# Altium integrated library AMCC PowerPC 405.IntLib: 46 symbols (part 5 of 12)
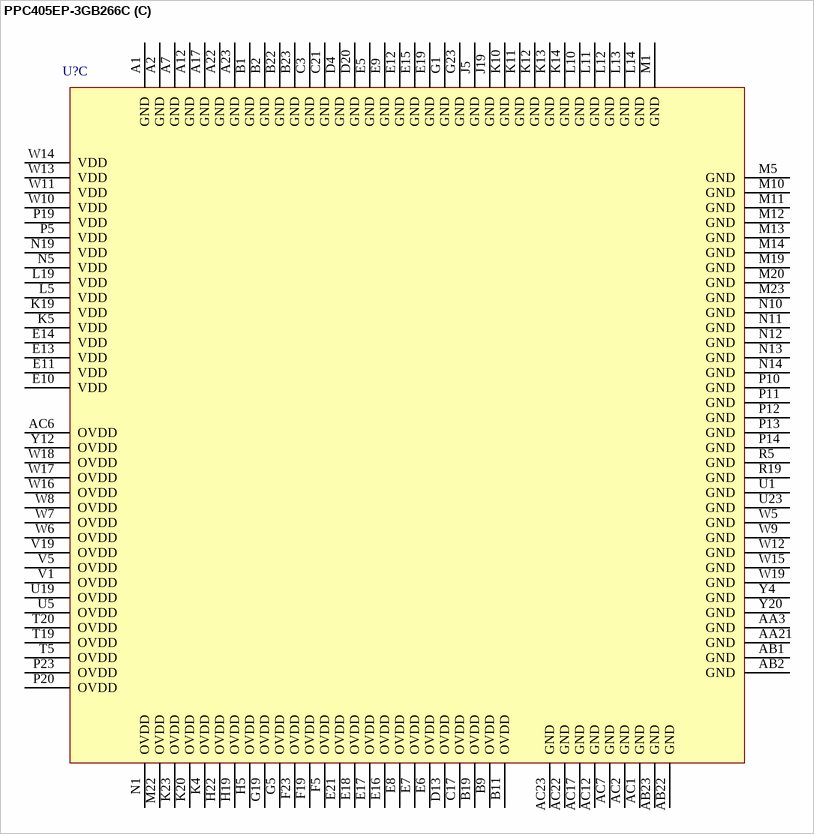
[diagram p122: symbol PPC405EP-3GB266C]

## PPC405EP-3GB266C
designator U?
PowerPC 405EP Embedded Processor, 266MHz, 31mm, 385 Ball E-PBGA; Published: 6-Oct-2005; LatestRevisionDate: 13-Apr-2006; LatestRevisionNote: IPC-7351 Footprint Added.; DatasheetVersion: rev1.02, Jan-2005; PackageVersion: Jan-2005; PackageReference: E-PBGA385; Publisher: Altium Limited; PackageDescription: 385-Ball Enhanced Plastic Ball Grid Array; ComponentLink1Description: Manufacturer Link; ComponentLink1URL: http://www.amcc.com/; ComponentLink2Description: Datasheet; ComponentLink2URL: https://www.amcc.com/MyAMCC/retrieveDocument/PowerPC/405EP/PPC405EP_DS2003__v1_02.pdf
footprint E-PBGA385 (BGA, 385-Leads, Body 31x31mm, Pitch 1.27mm)
3D model PPC405EP-E-PBGA385 (385-Ball Enhanced Plastic Ball Grid Array)
part A pins: A4 GPIO15[PerAddr04] (io), A5 GPIO16[PerAddr05] (io), A9 GPIO00[~{PerBLas}t] (io), A18 PCIC0/~{BE}0 (io), A19 PCIAD07 (io), A20 PCIAD10 (io), A21 PCIIDSel (in), AA1 TDI (in), AA2 TDO (out), AA7 DQM1 (out), AA15 ~{RA}S (out), AA23 GPIO01[TS1E] (io), AB4 IICSCL (io), AB13 ~{BankSel}0 (out), AB14 ClkEn0 (out), AB18 SysClk (in), AB20 ~{SysRese}t (io), AB21 AGND (in), AC3 TMS (in), AC10 DQM0 (out), AC13 ~{BankSel}1 (out), AC14 ClkEn1 (out), AC15 ~{WE} (out), AC16 BA1 (out), AC20 AVDD (in), B4 GPIO14[PerAddr03] (io), B16 PCIAD00 (io), B17 PCIAD02 (io), B18 PCIAD04 (io), B20 PCIAD11 (io), B21 PCIClk (in), C2 GPIO10[~{PerCS}1] (io), C16 PCIAD01 (io), C18 PCIAD06 (io), C19 PCIAD09 (io), C20 PCIAD12 (io), C22 ~{Hal}t (in), C23 PCIAD13 (io), D3 GPIO12[~{PerCS}3] (io), D5 GPIO13[~{PerCS}4] (io), D15 ~{PCIINT}[~{PerW}E] (out), D16 PCIAD03 (io), D17 PCIAD05 (io), D18 PCIAD08 (io), D19 PCIC1/~{BE}1 (io), D21 PCIAD14 (io), D22 PCIAD15 (io), D23 ~{PCIGnt}0/~{Re}q (out), E3 GPIO11[~{PerCS}2] (io), E20 ~{PCIReq0}/~{Gn}t (in), E22 ~{PCIReq}2 (in), E23 ~{PCIGnt}1 (out), F20 ~{PCIReq}1 (in), F21 ~{PCIGnt}2 (out), F22 ~{PCIFram}e (io), G20 ~{PCIRese}t (out), G21 ~{PCITRD}Y (io), G22 ~{PCISto}p (io), H2 ~{TRS}T (in), H20 ~{PCIIRD}Y (io), H21 ~{PCIDevSe}l (io), H23 ~{PCIPEr}r (io), J1 GPIO27[~{UART0_DT}R] (io), J2 GPIO28[UART1_Rx] (io), J3 GPIO29[UART1_Tx] (io), J20 ~{PCISEr}r (io), J21 PCIParity (io), J22 PCIAD16 (io), J23 PCIAD17 (io), K1 GPIO25[~{UART0_DS}R] (io), K21 PCIAD18 (io), K22 PCIAD19 (io), L4 GPIO26[~{UART0_R}I] (io), L20 PCIC2/~{BE}2 (io), L21 PCIAD20 (io), L22 PCIAD21 (io), L23 PCIAD22 (io), M4 GPIO24[~{UART0_DC}D] (io), M21 PCIAD23 (io), N2 ~{UART0_RT}S (out), N20 PCIC3/~{BE}3 (io), N21 PCIAD26 (io), N22 PCIAD25 (io), N23 PCIAD24 (io), P4 UART0_Tx (out), P21 PCIAD28 (io), P22 PCIAD27 (io), R20 GPIO22[IRQ5] (io), R21 PCIAD31 (io), R22 PCIAD30 (io), R23 PCIAD29 (io), T1 UART0_Rx (in), T3 ~{UART0_CT}S (in), T21 GPIO09[TrcClk] (io), T22 GPIO21[IRQ4] (io), T23 GPIO23[IRQ6] (io), U2 DQM3 (out), U20 GPIO05[TS3] (io), U21 GPIO07[TS5] (io), U22 GPIO08[TS6] (io), V20 ~{TestE}n (in), V21 GPIO19[IRQ2] (io), V22 GPIO20[IRQ3] (io), V23 GPIO06[TS4] (io), W4 DQM2 (out), W20 GPIO30[RejectPkt0] (io), W21 GPIO04[TS2O] (io), W22 GPIO17[IRQ0] (io), W23 GPIO18[IRQ1] (io), Y1 IICSDA (io), Y2 TCK (in), Y14 ~{CA}S (out), Y15 BA0 (out), Y17 SysErr (out), Y21 GPIO31[RejectPkt1] (io), Y22 GPIO02[TS2E] (io), Y23 GPIO03[TS1O] (io)
part B pins: A3 ~{ExtRese}t (out), A6 PerAddr08 (io), A8 PerAddr15 (io), A10 PerAddr21 (io), A11 PerAddr23 (io), A13 PerAddr27 (io), A14 PerAddr30 (io), A15 EMC0Tx1D2 (out), A16 EMC0Tx1En (out), AA4 MemData19 (io), AA5 EMCMDIO (io), AA6 MemData14 (io), AA8 MemData10 (io), AA9 PHY0CrS0 (in), AA10 MemData05 (io), AA11 MemData03 (io), AA12 MemData01 (io), AA13 PHY0Rx0D3 (in), AA14 MemClkOut0 (out), AA16 PHY0Rx0D2 (in), AA17 MemAddr03 (out), AA18 MemAddr05 (out), AA19 MemAddr09 (out), AA20 MemAddr11 (out), AA22 PHY0Rx0D1 (in), AB3 MemData20 (io), AB5 MemData16 (io), AB6 MemData12 (io), AB7 MemData11 (io), AB8 PHY0Col0 (in), AB9 MemData07 (io), AB10 PHY0Rx0Clk (in), AB11 PHY0Rx0Err (in), AB12 MemData00 (io), AB15 MemAddr00 (out), AB16 MemAddr01 (out), AB17 MemAddr02 (out), AB19 MemAddr07 (out), AC4 MemData17 (io), AC5 MemData15 (io), AC8 MemData08 (io), AC9 MemData06 (io), AC11 MemData02 (io), AC18 MemAddr04 (out), AC19 MemAddr06 (out), AC21 MemAddr12 (out), B3 PerReady (in), B5 PHY0CrS1 (in), B6 PerAddr07 (io), B7 PerAddr11 (io), B8 PerAddr13 (io), B10 PerAddr19 (io), B12 PerAddr25 (io), B13 PerAddr28 (io), B14 PerAddr31 (io), B15 EMC0Tx1D0 (out), C1 PHY0Rx1Err (in), C4 PerClk (out), C5 PHY0Col1 (in), C6 PHY0Tx1Clk (in), C7 PerAddr10 (io), C8 PerAddr12 (io), C9 PerAddr16 (io), C10 PerAddr18 (io), C11 PerAddr22 (io), C12 PerAddr26 (io), C13 PerAddr29 (io), C14 EMC0Tx1D1 (out), C15 EMC0Tx1Err (out), D1 PerData15 (io), D2 PerR/~{W} (out), D6 PHY0Rx1DV (in), D7 PerAddr06 (io), D8 PerAddr09 (io), D9 PerAddr14 (io), D10 PerAddr17 (io), D11 PerAddr20 (io), D12 PerAddr24 (io), D14 EMC0Tx1D3 (out), E1 ~{PerWBE}1 (out), E2 PHY0Rx1Clk (in), E4 ~{PerCS}0 (out), F1 PerData14 (io), F2 PHY0Rx1D3 (in), F3 ~{PerWBE}0 (out), F4 ~{PerO}E (out), G2 PerData11 (io), G3 PHY0Rx1D2 (in), G4 PerData12 (io), H1 PerData09 (io), H3 PHY0Rx1D1 (in), H4 PerData13 (io), J4 PerData10 (io), K2 PerData07 (io), K3 PerData08 (io), L1 EMC0Tx0D2 (out), L2 PerData05 (io), L3 PerData06 (io), M2 PerData03 (io), M3 PerData04 (io), N3 EMC0Tx0D1 (out), N4 PerData01 (io), P1 PerData02 (io), P2 PerData00 (io), P3 EMC0Tx0D3 (out), R1 PHY0Rx1D0 (in), R2 MemData31 (io), R3 MemData30 (io), R4 MemData29 (io), T2 MemData28 (io), T4 MemData27 (io), U3 EMC0Tx0D0 (out), U4 MemData25 (io), V2 MemData26 (io), V3 EMC0Tx0Err (out), V4 MemData23 (io), W1 EMC0Tx0En (out), W2 MemData24 (io), W3 MemData22 (io), Y3 MemData21 (io), Y5 MemData18 (io), Y6 EMCMDClk (out), Y7 MemData13 (io), Y8 PHY0Tx0Clk (in), Y9 MemData09 (io), Y10 PHY0Rx0DV (in), Y11 MemData04 (io), Y13 MemClkOut1 (out), Y16 PHY0Rx0D0 (in), Y18 MemAddr08 (out), Y19 MemAddr10 (out)
part C pins: A1 GND (power), A2 GND (power), A7 GND (power), A12 GND (power), A17 GND (power), A22 GND (power), A23 GND (power), AA3 GND (power), AA21 GND (power), AB1 GND (power), AB2 GND (power), AB22 GND (power), AB23 GND (power), AC1 GND (power), AC2 GND (power), AC6 OVDD (power), AC7 GND (power), AC12 GND (power), AC17 GND (power), AC22 GND (power), AC23 GND (power), B1 GND (power), B2 GND (power), B9 OVDD (power), B11 OVDD (power), B19 OVDD (power), B22 GND (power), B23 GND (power), C3 GND (power), C17 OVDD (power), C21 GND (power), D4 GND (power), D13 OVDD (power), D20 GND (power), E5 GND (power), E6 OVDD (power), E7 OVDD (power), E8 OVDD (power), E9 GND (power), E10 VDD (power), E11 VDD (power), E12 GND (power), E13 VDD (power), E14 VDD (power), E15 GND (power), E16 OVDD (power), E17 OVDD (power), E18 OVDD (power), E19 GND (power), E21 OVDD (power), F5 OVDD (power), F19 OVDD (power), F23 OVDD (power), G1 GND (power), G5 OVDD (power), G19 OVDD (power), G23 GND (power), H5 OVDD (power), H19 OVDD (power), H22 OVDD (power), J5 GND (power), J19 GND (power), K4 OVDD (power), K5 VDD (power), K10 GND (power) "Thermal Balls", K11 GND (power) "Thermal Balls", K12 GND (power) "Thermal Balls", K13 GND (power) "Thermal Balls", K14 GND (power) "Thermal Balls", K19 VDD (power), K20 OVDD (power), K23 OVDD (power), L5 VDD (power), L10 GND (power) "Thermal Balls", L11 GND (power) "Thermal Balls", L12 GND (power) "Thermal Balls", L13 GND (power) "Thermal Balls", L14 GND (power) "Thermal Balls", L19 VDD (power), M1 GND (power), M5 GND (power), M10 GND (power) "Thermal Balls", M11 GND (power) "Thermal Balls", M12 GND (power) "Thermal Balls", M13 GND (power) "Thermal Balls", M14 GND (power) "Thermal Balls", M19 GND (power), M20 GND (power), M22 OVDD (power), M23 GND (power), N1 OVDD (power), N5 VDD (power), N10 GND (power) "Thermal Balls", N11 GND (power) "Thermal Balls", N12 GND (power) "Thermal Balls", N13 GND (power) "Thermal Balls", N14 GND (power) "Thermal Balls", N19 VDD (power), P5 VDD (power), P10 GND (power) "Thermal Balls", P11 GND (power) "Thermal Balls", P12 GND (power) "Thermal Balls", P13 GND (power) "Thermal Balls", P14 GND (power) "Thermal Balls", P19 VDD (power), P20 OVDD (power), P23 OVDD (power), R5 GND (power), R19 GND (power), T5 OVDD (power), T19 OVDD (power), T20 OVDD (power), U1 GND (power), U5 OVDD (power), U19 OVDD (power), U23 GND (power), V1 OVDD (power), V5 OVDD (power), V19 OVDD (power), W5 GND (power), W6 OVDD (power), W7 OVDD (power), W8 OVDD (power), W9 GND (power), W10 VDD (power), W11 VDD (power), W12 GND (power), W13 VDD (power), W14 VDD (power), W15 GND (power), W16 OVDD (power), W17 OVDD (power), W18 OVDD (power), W19 GND (power), Y4 GND (power), Y12 OVDD (power), Y20 GND (power)

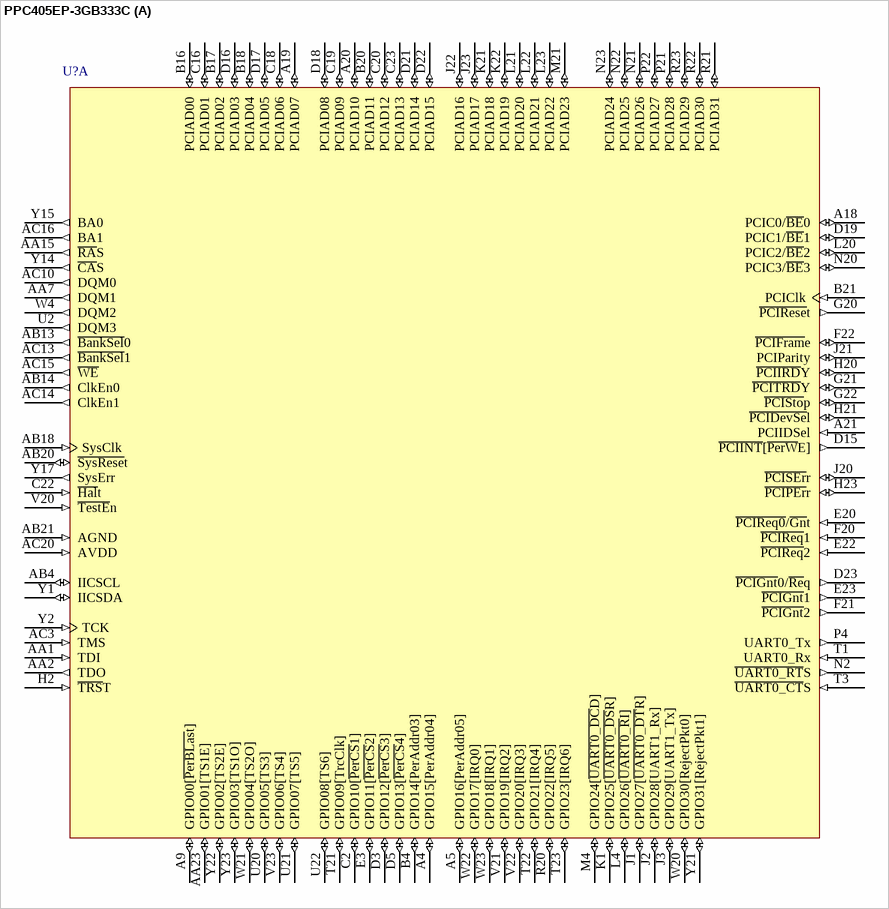
[diagram p26: symbol PPC405EP-3GB333C]

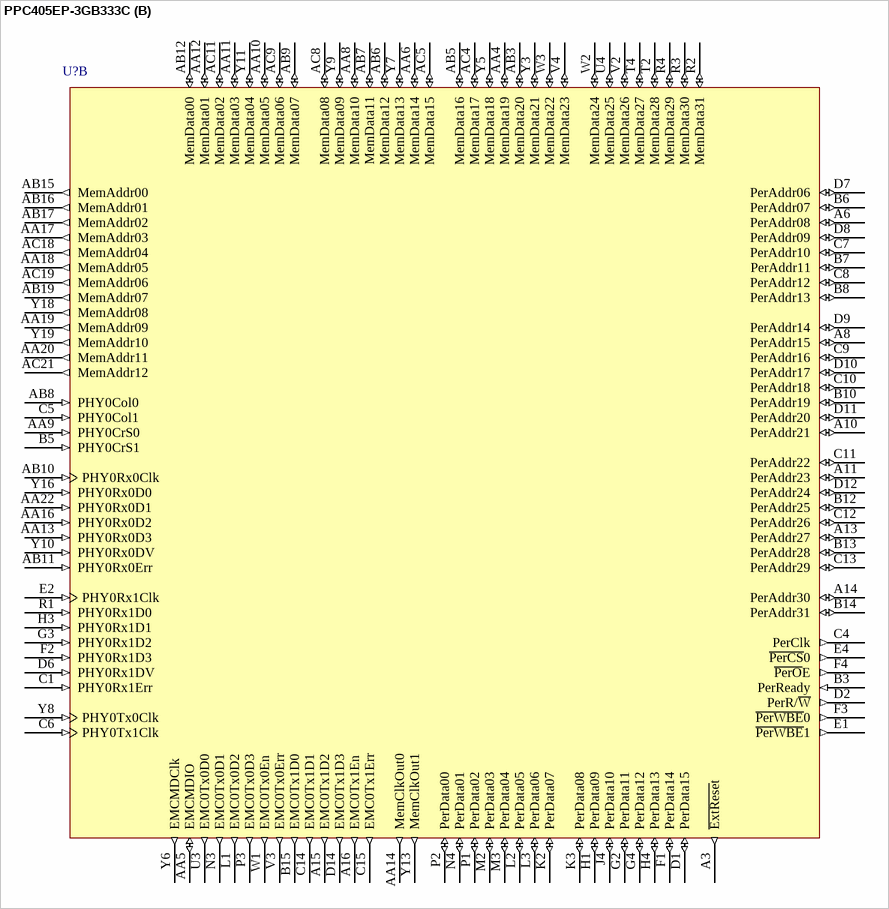
[diagram p27: symbol PPC405EP-3GB333C]

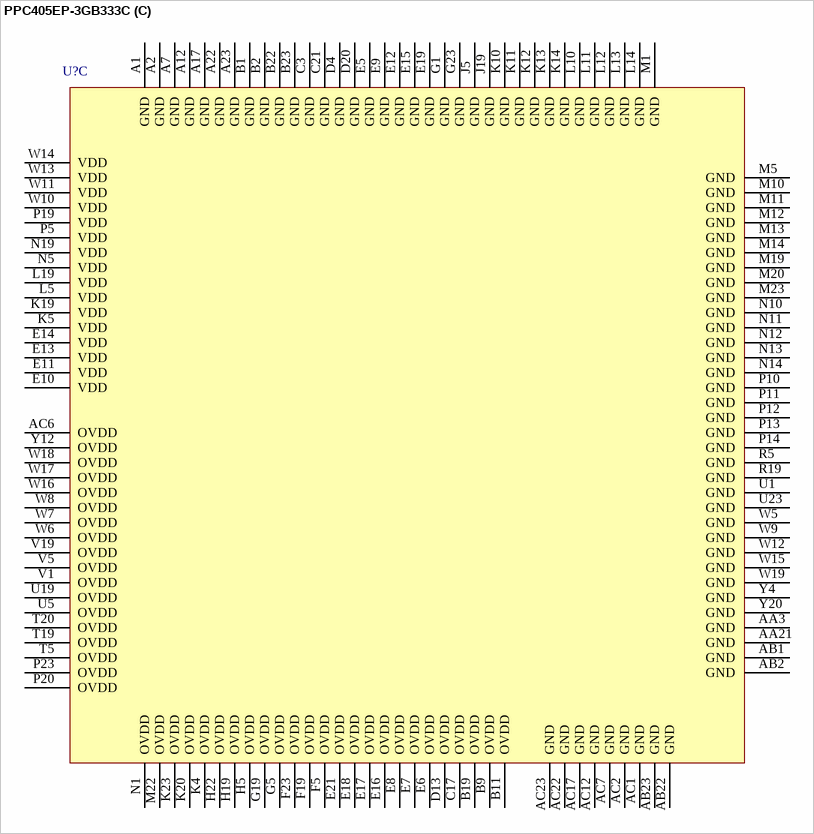
[diagram p28: symbol PPC405EP-3GB333C]

## PPC405EP-3GB333C
designator U?
PowerPC 405EP Embedded Processor, 333MHz, 31mm, 385 Ball E-PBGA; Published: 6-Oct-2005; LatestRevisionDate: 13-Apr-2006; LatestRevisionNote: IPC-7351 Footprint Added.; DatasheetVersion: rev1.02, Jan-2005; PackageVersion: Jan-2005; PackageReference: E-PBGA385; Publisher: Altium Limited; PackageDescription: 385-Ball Enhanced Plastic Ball Grid Array; ComponentLink1Description: Manufacturer Link; ComponentLink1URL: http://www.amcc.com/; ComponentLink2Description: Datasheet; ComponentLink2URL: https://www.amcc.com/MyAMCC/retrieveDocument/PowerPC/405EP/PPC405EP_DS2003__v1_02.pdf
footprint E-PBGA385 (BGA, 385-Leads, Body 31x31mm, Pitch 1.27mm)
3D model PPC405EP-E-PBGA385 (385-Ball Enhanced Plastic Ball Grid Array)
part A pins: A4 GPIO15[PerAddr04] (io), A5 GPIO16[PerAddr05] (io), A9 GPIO00[~{PerBLas}t] (io), A18 PCIC0/~{BE}0 (io), A19 PCIAD07 (io), A20 PCIAD10 (io), A21 PCIIDSel (in), AA1 TDI (in), AA2 TDO (out), AA7 DQM1 (out), AA15 ~{RA}S (out), AA23 GPIO01[TS1E] (io), AB4 IICSCL (io), AB13 ~{BankSel}0 (out), AB14 ClkEn0 (out), AB18 SysClk (in), AB20 ~{SysRese}t (io), AB21 AGND (in), AC3 TMS (in), AC10 DQM0 (out), AC13 ~{BankSel}1 (out), AC14 ClkEn1 (out), AC15 ~{WE} (out), AC16 BA1 (out), AC20 AVDD (in), B4 GPIO14[PerAddr03] (io), B16 PCIAD00 (io), B17 PCIAD02 (io), B18 PCIAD04 (io), B20 PCIAD11 (io), B21 PCIClk (in), C2 GPIO10[~{PerCS}1] (io), C16 PCIAD01 (io), C18 PCIAD06 (io), C19 PCIAD09 (io), C20 PCIAD12 (io), C22 ~{Hal}t (in), C23 PCIAD13 (io), D3 GPIO12[~{PerCS}3] (io), D5 GPIO13[~{PerCS}4] (io), D15 ~{PCIINT}[~{PerW}E] (out), D16 PCIAD03 (io), D17 PCIAD05 (io), D18 PCIAD08 (io), D19 PCIC1/~{BE}1 (io), D21 PCIAD14 (io), D22 PCIAD15 (io), D23 ~{PCIGnt}0/~{Re}q (out), E3 GPIO11[~{PerCS}2] (io), E20 ~{PCIReq0}/~{Gn}t (in), E22 ~{PCIReq}2 (in), E23 ~{PCIGnt}1 (out), F20 ~{PCIReq}1 (in), F21 ~{PCIGnt}2 (out), F22 ~{PCIFram}e (io), G20 ~{PCIRese}t (out), G21 ~{PCITRD}Y (io), G22 ~{PCISto}p (io), H2 ~{TRS}T (in), H20 ~{PCIIRD}Y (io), H21 ~{PCIDevSe}l (io), H23 ~{PCIPEr}r (io), J1 GPIO27[~{UART0_DT}R] (io), J2 GPIO28[UART1_Rx] (io), J3 GPIO29[UART1_Tx] (io), J20 ~{PCISEr}r (io), J21 PCIParity (io), J22 PCIAD16 (io), J23 PCIAD17 (io), K1 GPIO25[~{UART0_DS}R] (io), K21 PCIAD18 (io), K22 PCIAD19 (io), L4 GPIO26[~{UART0_R}I] (io), L20 PCIC2/~{BE}2 (io), L21 PCIAD20 (io), L22 PCIAD21 (io), L23 PCIAD22 (io), M4 GPIO24[~{UART0_DC}D] (io), M21 PCIAD23 (io), N2 ~{UART0_RT}S (out), N20 PCIC3/~{BE}3 (io), N21 PCIAD26 (io), N22 PCIAD25 (io), N23 PCIAD24 (io), P4 UART0_Tx (out), P21 PCIAD28 (io), P22 PCIAD27 (io), R20 GPIO22[IRQ5] (io), R21 PCIAD31 (io), R22 PCIAD30 (io), R23 PCIAD29 (io), T1 UART0_Rx (in), T3 ~{UART0_CT}S (in), T21 GPIO09[TrcClk] (io), T22 GPIO21[IRQ4] (io), T23 GPIO23[IRQ6] (io), U2 DQM3 (out), U20 GPIO05[TS3] (io), U21 GPIO07[TS5] (io), U22 GPIO08[TS6] (io), V20 ~{TestE}n (in), V21 GPIO19[IRQ2] (io), V22 GPIO20[IRQ3] (io), V23 GPIO06[TS4] (io), W4 DQM2 (out), W20 GPIO30[RejectPkt0] (io), W21 GPIO04[TS2O] (io), W22 GPIO17[IRQ0] (io), W23 GPIO18[IRQ1] (io), Y1 IICSDA (io), Y2 TCK (in), Y14 ~{CA}S (out), Y15 BA0 (out), Y17 SysErr (out), Y21 GPIO31[RejectPkt1] (io), Y22 GPIO02[TS2E] (io), Y23 GPIO03[TS1O] (io)
part B pins: A3 ~{ExtRese}t (out), A6 PerAddr08 (io), A8 PerAddr15 (io), A10 PerAddr21 (io), A11 PerAddr23 (io), A13 PerAddr27 (io), A14 PerAddr30 (io), A15 EMC0Tx1D2 (out), A16 EMC0Tx1En (out), AA4 MemData19 (io), AA5 EMCMDIO (io), AA6 MemData14 (io), AA8 MemData10 (io), AA9 PHY0CrS0 (in), AA10 MemData05 (io), AA11 MemData03 (io), AA12 MemData01 (io), AA13 PHY0Rx0D3 (in), AA14 MemClkOut0 (out), AA16 PHY0Rx0D2 (in), AA17 MemAddr03 (out), AA18 MemAddr05 (out), AA19 MemAddr09 (out), AA20 MemAddr11 (out), AA22 PHY0Rx0D1 (in), AB3 MemData20 (io), AB5 MemData16 (io), AB6 MemData12 (io), AB7 MemData11 (io), AB8 PHY0Col0 (in), AB9 MemData07 (io), AB10 PHY0Rx0Clk (in), AB11 PHY0Rx0Err (in), AB12 MemData00 (io), AB15 MemAddr00 (out), AB16 MemAddr01 (out), AB17 MemAddr02 (out), AB19 MemAddr07 (out), AC4 MemData17 (io), AC5 MemData15 (io), AC8 MemData08 (io), AC9 MemData06 (io), AC11 MemData02 (io), AC18 MemAddr04 (out), AC19 MemAddr06 (out), AC21 MemAddr12 (out), B3 PerReady (in), B5 PHY0CrS1 (in), B6 PerAddr07 (io), B7 PerAddr11 (io), B8 PerAddr13 (io), B10 PerAddr19 (io), B12 PerAddr25 (io), B13 PerAddr28 (io), B14 PerAddr31 (io), B15 EMC0Tx1D0 (out), C1 PHY0Rx1Err (in), C4 PerClk (out), C5 PHY0Col1 (in), C6 PHY0Tx1Clk (in), C7 PerAddr10 (io), C8 PerAddr12 (io), C9 PerAddr16 (io), C10 PerAddr18 (io), C11 PerAddr22 (io), C12 PerAddr26 (io), C13 PerAddr29 (io), C14 EMC0Tx1D1 (out), C15 EMC0Tx1Err (out), D1 PerData15 (io), D2 PerR/~{W} (out), D6 PHY0Rx1DV (in), D7 PerAddr06 (io), D8 PerAddr09 (io), D9 PerAddr14 (io), D10 PerAddr17 (io), D11 PerAddr20 (io), D12 PerAddr24 (io), D14 EMC0Tx1D3 (out), E1 ~{PerWBE}1 (out), E2 PHY0Rx1Clk (in), E4 ~{PerCS}0 (out), F1 PerData14 (io), F2 PHY0Rx1D3 (in), F3 ~{PerWBE}0 (out), F4 ~{PerO}E (out), G2 PerData11 (io), G3 PHY0Rx1D2 (in), G4 PerData12 (io), H1 PerData09 (io), H3 PHY0Rx1D1 (in), H4 PerData13 (io), J4 PerData10 (io), K2 PerData07 (io), K3 PerData08 (io), L1 EMC0Tx0D2 (out), L2 PerData05 (io), L3 PerData06 (io), M2 PerData03 (io), M3 PerData04 (io), N3 EMC0Tx0D1 (out), N4 PerData01 (io), P1 PerData02 (io), P2 PerData00 (io), P3 EMC0Tx0D3 (out), R1 PHY0Rx1D0 (in), R2 MemData31 (io), R3 MemData30 (io), R4 MemData29 (io), T2 MemData28 (io), T4 MemData27 (io), U3 EMC0Tx0D0 (out), U4 MemData25 (io), V2 MemData26 (io), V3 EMC0Tx0Err (out), V4 MemData23 (io), W1 EMC0Tx0En (out), W2 MemData24 (io), W3 MemData22 (io), Y3 MemData21 (io), Y5 MemData18 (io), Y6 EMCMDClk (out), Y7 MemData13 (io), Y8 PHY0Tx0Clk (in), Y9 MemData09 (io), Y10 PHY0Rx0DV (in), Y11 MemData04 (io), Y13 MemClkOut1 (out), Y16 PHY0Rx0D0 (in), Y18 MemAddr08 (out), Y19 MemAddr10 (out)
part C pins: A1 GND (power), A2 GND (power), A7 GND (power), A12 GND (power), A17 GND (power), A22 GND (power), A23 GND (power), AA3 GND (power), AA21 GND (power), AB1 GND (power), AB2 GND (power), AB22 GND (power), AB23 GND (power), AC1 GND (power), AC2 GND (power), AC6 OVDD (power), AC7 GND (power), AC12 GND (power), AC17 GND (power), AC22 GND (power), AC23 GND (power), B1 GND (power), B2 GND (power), B9 OVDD (power), B11 OVDD (power), B19 OVDD (power), B22 GND (power), B23 GND (power), C3 GND (power), C17 OVDD (power), C21 GND (power), D4 GND (power), D13 OVDD (power), D20 GND (power), E5 GND (power), E6 OVDD (power), E7 OVDD (power), E8 OVDD (power), E9 GND (power), E10 VDD (power), E11 VDD (power), E12 GND (power), E13 VDD (power), E14 VDD (power), E15 GND (power), E16 OVDD (power), E17 OVDD (power), E18 OVDD (power), E19 GND (power), E21 OVDD (power), F5 OVDD (power), F19 OVDD (power), F23 OVDD (power), G1 GND (power), G5 OVDD (power), G19 OVDD (power), G23 GND (power), H5 OVDD (power), H19 OVDD (power), H22 OVDD (power), J5 GND (power), J19 GND (power), K4 OVDD (power), K5 VDD (power), K10 GND (power) "Thermal Balls", K11 GND (power) "Thermal Balls", K12 GND (power) "Thermal Balls", K13 GND (power) "Thermal Balls", K14 GND (power) "Thermal Balls", K19 VDD (power), K20 OVDD (power), K23 OVDD (power), L5 VDD (power), L10 GND (power) "Thermal Balls", L11 GND (power) "Thermal Balls", L12 GND (power) "Thermal Balls", L13 GND (power) "Thermal Balls", L14 GND (power) "Thermal Balls", L19 VDD (power), M1 GND (power), M5 GND (power), M10 GND (power) "Thermal Balls", M11 GND (power) "Thermal Balls", M12 GND (power) "Thermal Balls", M13 GND (power) "Thermal Balls", M14 GND (power) "Thermal Balls", M19 GND (power), M20 GND (power), M22 OVDD (power), M23 GND (power), N1 OVDD (power), N5 VDD (power), N10 GND (power) "Thermal Balls", N11 GND (power) "Thermal Balls", N12 GND (power) "Thermal Balls", N13 GND (power) "Thermal Balls", N14 GND (power) "Thermal Balls", N19 VDD (power), P5 VDD (power), P10 GND (power) "Thermal Balls", P11 GND (power) "Thermal Balls", P12 GND (power) "Thermal Balls", P13 GND (power) "Thermal Balls", P14 GND (power) "Thermal Balls", P19 VDD (power), P20 OVDD (power), P23 OVDD (power), R5 GND (power), R19 GND (power), T5 OVDD (power), T19 OVDD (power), T20 OVDD (power), U1 GND (power), U5 OVDD (power), U19 OVDD (power), U23 GND (power), V1 OVDD (power), V5 OVDD (power), V19 OVDD (power), W5 GND (power), W6 OVDD (power), W7 OVDD (power), W8 OVDD (power), W9 GND (power), W10 VDD (power), W11 VDD (power), W12 GND (power), W13 VDD (power), W14 VDD (power), W15 GND (power), W16 OVDD (power), W17 OVDD (power), W18 OVDD (power), W19 GND (power), Y4 GND (power), Y12 OVDD (power), Y20 GND (power)

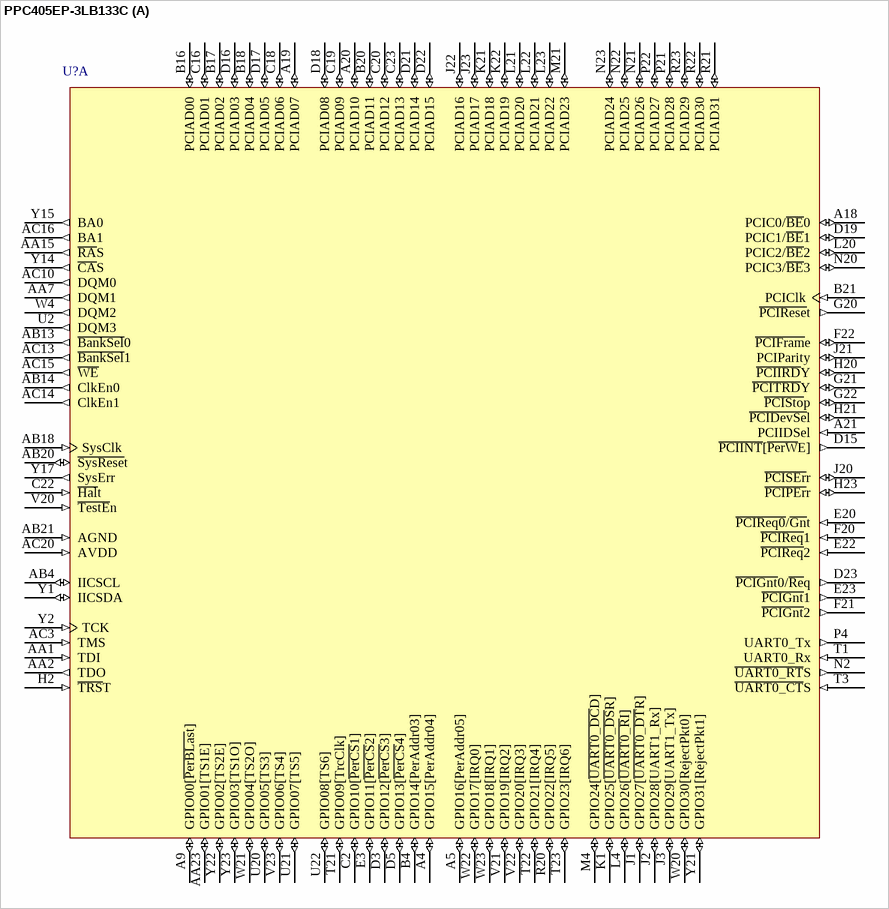
[diagram p29: symbol PPC405EP-3LB133C]

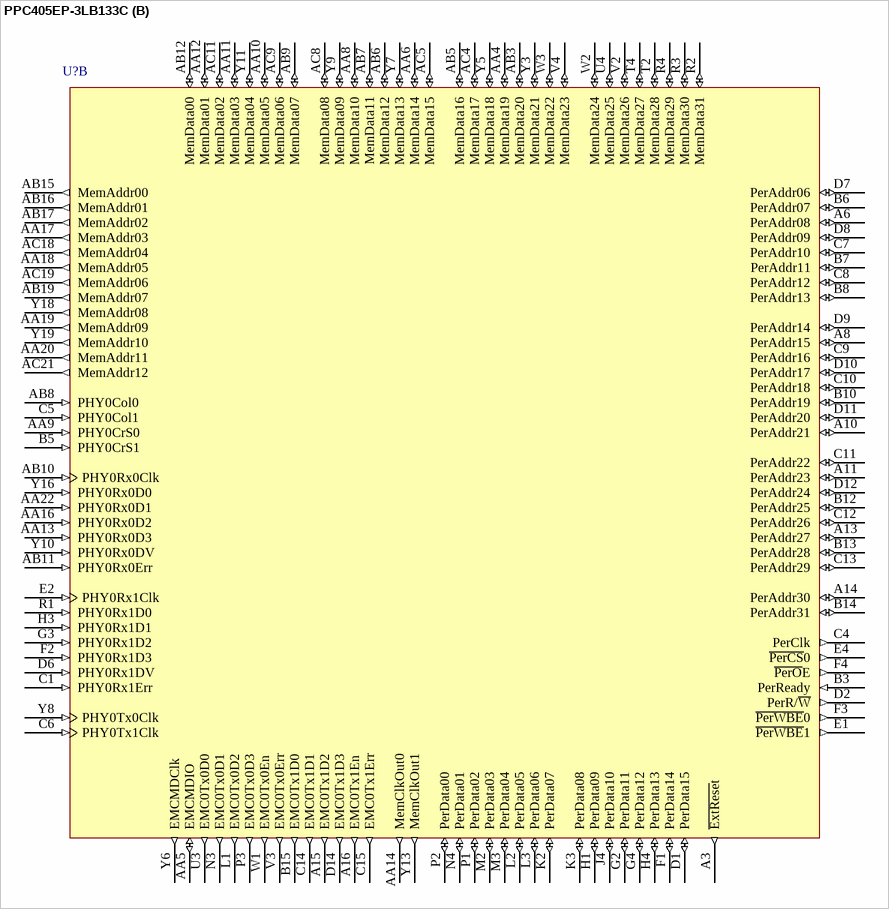
[diagram p30: symbol PPC405EP-3LB133C]

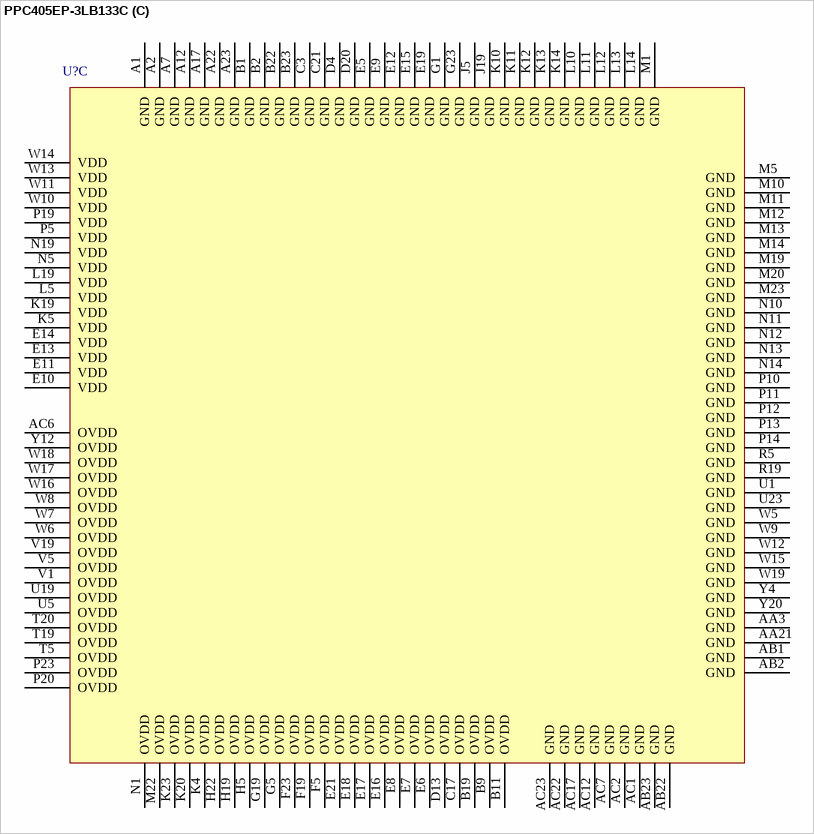
[diagram p31: symbol PPC405EP-3LB133C]

## PPC405EP-3LB133C
designator U?
PowerPC 405EP Embedded Processor, 133MHz, 31mm, 385 Ball E-PBGA, Pb-Free; Published: 6-Oct-2005; LatestRevisionDate: 13-Apr-2006; LatestRevisionNote: IPC-7351 Footprint Added.; DatasheetVersion: rev1.02, Jan-2005; PackageVersion: Jan-2005; PackageReference: E-PBGA385; Publisher: Altium Limited; PackageDescription: 385-Ball Enhanced Plastic Ball Grid Array; ComponentLink1Description: Manufacturer Link; ComponentLink1URL: http://www.amcc.com/; ComponentLink2Description: Datasheet; ComponentLink2URL: https://www.amcc.com/MyAMCC/retrieveDocument/PowerPC/405EP/PPC405EP_DS2003__v1_02.pdf
footprint E-PBGA385 (BGA, 385-Leads, Body 31x31mm, Pitch 1.27mm)
3D model PPC405EP-E-PBGA385 (385-Ball Enhanced Plastic Ball Grid Array)
part A pins: A4 GPIO15[PerAddr04] (io), A5 GPIO16[PerAddr05] (io), A9 GPIO00[~{PerBLas}t] (io), A18 PCIC0/~{BE}0 (io), A19 PCIAD07 (io), A20 PCIAD10 (io), A21 PCIIDSel (in), AA1 TDI (in), AA2 TDO (out), AA7 DQM1 (out), AA15 ~{RA}S (out), AA23 GPIO01[TS1E] (io), AB4 IICSCL (io), AB13 ~{BankSel}0 (out), AB14 ClkEn0 (out), AB18 SysClk (in), AB20 ~{SysRese}t (io), AB21 AGND (in), AC3 TMS (in), AC10 DQM0 (out), AC13 ~{BankSel}1 (out), AC14 ClkEn1 (out), AC15 ~{WE} (out), AC16 BA1 (out), AC20 AVDD (in), B4 GPIO14[PerAddr03] (io), B16 PCIAD00 (io), B17 PCIAD02 (io), B18 PCIAD04 (io), B20 PCIAD11 (io), B21 PCIClk (in), C2 GPIO10[~{PerCS}1] (io), C16 PCIAD01 (io), C18 PCIAD06 (io), C19 PCIAD09 (io), C20 PCIAD12 (io), C22 ~{Hal}t (in), C23 PCIAD13 (io), D3 GPIO12[~{PerCS}3] (io), D5 GPIO13[~{PerCS}4] (io), D15 ~{PCIINT}[~{PerW}E] (out), D16 PCIAD03 (io), D17 PCIAD05 (io), D18 PCIAD08 (io), D19 PCIC1/~{BE}1 (io), D21 PCIAD14 (io), D22 PCIAD15 (io), D23 ~{PCIGnt}0/~{Re}q (out), E3 GPIO11[~{PerCS}2] (io), E20 ~{PCIReq0}/~{Gn}t (in), E22 ~{PCIReq}2 (in), E23 ~{PCIGnt}1 (out), F20 ~{PCIReq}1 (in), F21 ~{PCIGnt}2 (out), F22 ~{PCIFram}e (io), G20 ~{PCIRese}t (out), G21 ~{PCITRD}Y (io), G22 ~{PCISto}p (io), H2 ~{TRS}T (in), H20 ~{PCIIRD}Y (io), H21 ~{PCIDevSe}l (io), H23 ~{PCIPEr}r (io), J1 GPIO27[~{UART0_DT}R] (io), J2 GPIO28[UART1_Rx] (io), J3 GPIO29[UART1_Tx] (io), J20 ~{PCISEr}r (io), J21 PCIParity (io), J22 PCIAD16 (io), J23 PCIAD17 (io), K1 GPIO25[~{UART0_DS}R] (io), K21 PCIAD18 (io), K22 PCIAD19 (io), L4 GPIO26[~{UART0_R}I] (io), L20 PCIC2/~{BE}2 (io), L21 PCIAD20 (io), L22 PCIAD21 (io), L23 PCIAD22 (io), M4 GPIO24[~{UART0_DC}D] (io), M21 PCIAD23 (io), N2 ~{UART0_RT}S (out), N20 PCIC3/~{BE}3 (io), N21 PCIAD26 (io), N22 PCIAD25 (io), N23 PCIAD24 (io), P4 UART0_Tx (out), P21 PCIAD28 (io), P22 PCIAD27 (io), R20 GPIO22[IRQ5] (io), R21 PCIAD31 (io), R22 PCIAD30 (io), R23 PCIAD29 (io), T1 UART0_Rx (in), T3 ~{UART0_CT}S (in), T21 GPIO09[TrcClk] (io), T22 GPIO21[IRQ4] (io), T23 GPIO23[IRQ6] (io), U2 DQM3 (out), U20 GPIO05[TS3] (io), U21 GPIO07[TS5] (io), U22 GPIO08[TS6] (io), V20 ~{TestE}n (in), V21 GPIO19[IRQ2] (io), V22 GPIO20[IRQ3] (io), V23 GPIO06[TS4] (io), W4 DQM2 (out), W20 GPIO30[RejectPkt0] (io), W21 GPIO04[TS2O] (io), W22 GPIO17[IRQ0] (io), W23 GPIO18[IRQ1] (io), Y1 IICSDA (io), Y2 TCK (in), Y14 ~{CA}S (out), Y15 BA0 (out), Y17 SysErr (out), Y21 GPIO31[RejectPkt1] (io), Y22 GPIO02[TS2E] (io), Y23 GPIO03[TS1O] (io)
part B pins: A3 ~{ExtRese}t (out), A6 PerAddr08 (io), A8 PerAddr15 (io), A10 PerAddr21 (io), A11 PerAddr23 (io), A13 PerAddr27 (io), A14 PerAddr30 (io), A15 EMC0Tx1D2 (out), A16 EMC0Tx1En (out), AA4 MemData19 (io), AA5 EMCMDIO (io), AA6 MemData14 (io), AA8 MemData10 (io), AA9 PHY0CrS0 (in), AA10 MemData05 (io), AA11 MemData03 (io), AA12 MemData01 (io), AA13 PHY0Rx0D3 (in), AA14 MemClkOut0 (out), AA16 PHY0Rx0D2 (in), AA17 MemAddr03 (out), AA18 MemAddr05 (out), AA19 MemAddr09 (out), AA20 MemAddr11 (out), AA22 PHY0Rx0D1 (in), AB3 MemData20 (io), AB5 MemData16 (io), AB6 MemData12 (io), AB7 MemData11 (io), AB8 PHY0Col0 (in), AB9 MemData07 (io), AB10 PHY0Rx0Clk (in), AB11 PHY0Rx0Err (in), AB12 MemData00 (io), AB15 MemAddr00 (out), AB16 MemAddr01 (out), AB17 MemAddr02 (out), AB19 MemAddr07 (out), AC4 MemData17 (io), AC5 MemData15 (io), AC8 MemData08 (io), AC9 MemData06 (io), AC11 MemData02 (io), AC18 MemAddr04 (out), AC19 MemAddr06 (out), AC21 MemAddr12 (out), B3 PerReady (in), B5 PHY0CrS1 (in), B6 PerAddr07 (io), B7 PerAddr11 (io), B8 PerAddr13 (io), B10 PerAddr19 (io), B12 PerAddr25 (io), B13 PerAddr28 (io), B14 PerAddr31 (io), B15 EMC0Tx1D0 (out), C1 PHY0Rx1Err (in), C4 PerClk (out), C5 PHY0Col1 (in), C6 PHY0Tx1Clk (in), C7 PerAddr10 (io), C8 PerAddr12 (io), C9 PerAddr16 (io), C10 PerAddr18 (io), C11 PerAddr22 (io), C12 PerAddr26 (io), C13 PerAddr29 (io), C14 EMC0Tx1D1 (out), C15 EMC0Tx1Err (out), D1 PerData15 (io), D2 PerR/~{W} (out), D6 PHY0Rx1DV (in), D7 PerAddr06 (io), D8 PerAddr09 (io), D9 PerAddr14 (io), D10 PerAddr17 (io), D11 PerAddr20 (io), D12 PerAddr24 (io), D14 EMC0Tx1D3 (out), E1 ~{PerWBE}1 (out), E2 PHY0Rx1Clk (in), E4 ~{PerCS}0 (out), F1 PerData14 (io), F2 PHY0Rx1D3 (in), F3 ~{PerWBE}0 (out), F4 ~{PerO}E (out), G2 PerData11 (io), G3 PHY0Rx1D2 (in), G4 PerData12 (io), H1 PerData09 (io), H3 PHY0Rx1D1 (in), H4 PerData13 (io), J4 PerData10 (io), K2 PerData07 (io), K3 PerData08 (io), L1 EMC0Tx0D2 (out), L2 PerData05 (io), L3 PerData06 (io), M2 PerData03 (io), M3 PerData04 (io), N3 EMC0Tx0D1 (out), N4 PerData01 (io), P1 PerData02 (io), P2 PerData00 (io), P3 EMC0Tx0D3 (out), R1 PHY0Rx1D0 (in), R2 MemData31 (io), R3 MemData30 (io), R4 MemData29 (io), T2 MemData28 (io), T4 MemData27 (io), U3 EMC0Tx0D0 (out), U4 MemData25 (io), V2 MemData26 (io), V3 EMC0Tx0Err (out), V4 MemData23 (io), W1 EMC0Tx0En (out), W2 MemData24 (io), W3 MemData22 (io), Y3 MemData21 (io), Y5 MemData18 (io), Y6 EMCMDClk (out), Y7 MemData13 (io), Y8 PHY0Tx0Clk (in), Y9 MemData09 (io), Y10 PHY0Rx0DV (in), Y11 MemData04 (io), Y13 MemClkOut1 (out), Y16 PHY0Rx0D0 (in), Y18 MemAddr08 (out), Y19 MemAddr10 (out)
part C pins: A1 GND (power), A2 GND (power), A7 GND (power), A12 GND (power), A17 GND (power), A22 GND (power), A23 GND (power), AA3 GND (power), AA21 GND (power), AB1 GND (power), AB2 GND (power), AB22 GND (power), AB23 GND (power), AC1 GND (power), AC2 GND (power), AC6 OVDD (power), AC7 GND (power), AC12 GND (power), AC17 GND (power), AC22 GND (power), AC23 GND (power), B1 GND (power), B2 GND (power), B9 OVDD (power), B11 OVDD (power), B19 OVDD (power), B22 GND (power), B23 GND (power), C3 GND (power), C17 OVDD (power), C21 GND (power), D4 GND (power), D13 OVDD (power), D20 GND (power), E5 GND (power), E6 OVDD (power), E7 OVDD (power), E8 OVDD (power), E9 GND (power), E10 VDD (power), E11 VDD (power), E12 GND (power), E13 VDD (power), E14 VDD (power), E15 GND (power), E16 OVDD (power), E17 OVDD (power), E18 OVDD (power), E19 GND (power), E21 OVDD (power), F5 OVDD (power), F19 OVDD (power), F23 OVDD (power), G1 GND (power), G5 OVDD (power), G19 OVDD (power), G23 GND (power), H5 OVDD (power), H19 OVDD (power), H22 OVDD (power), J5 GND (power), J19 GND (power), K4 OVDD (power), K5 VDD (power), K10 GND (power) "Thermal Balls", K11 GND (power) "Thermal Balls", K12 GND (power) "Thermal Balls", K13 GND (power) "Thermal Balls", K14 GND (power) "Thermal Balls", K19 VDD (power), K20 OVDD (power), K23 OVDD (power), L5 VDD (power), L10 GND (power) "Thermal Balls", L11 GND (power) "Thermal Balls", L12 GND (power) "Thermal Balls", L13 GND (power) "Thermal Balls", L14 GND (power) "Thermal Balls", L19 VDD (power), M1 GND (power), M5 GND (power), M10 GND (power) "Thermal Balls", M11 GND (power) "Thermal Balls", M12 GND (power) "Thermal Balls", M13 GND (power) "Thermal Balls", M14 GND (power) "Thermal Balls", M19 GND (power), M20 GND (power), M22 OVDD (power), M23 GND (power), N1 OVDD (power), N5 VDD (power), N10 GND (power) "Thermal Balls", N11 GND (power) "Thermal Balls", N12 GND (power) "Thermal Balls", N13 GND (power) "Thermal Balls", N14 GND (power) "Thermal Balls", N19 VDD (power), P5 VDD (power), P10 GND (power) "Thermal Balls", P11 GND (power) "Thermal Balls", P12 GND (power) "Thermal Balls", P13 GND (power) "Thermal Balls", P14 GND (power) "Thermal Balls", P19 VDD (power), P20 OVDD (power), P23 OVDD (power), R5 GND (power), R19 GND (power), T5 OVDD (power), T19 OVDD (power), T20 OVDD (power), U1 GND (power), U5 OVDD (power), U19 OVDD (power), U23 GND (power), V1 OVDD (power), V5 OVDD (power), V19 OVDD (power), W5 GND (power), W6 OVDD (power), W7 OVDD (power), W8 OVDD (power), W9 GND (power), W10 VDD (power), W11 VDD (power), W12 GND (power), W13 VDD (power), W14 VDD (power), W15 GND (power), W16 OVDD (power), W17 OVDD (power), W18 OVDD (power), W19 GND (power), Y4 GND (power), Y12 OVDD (power), Y20 GND (power)

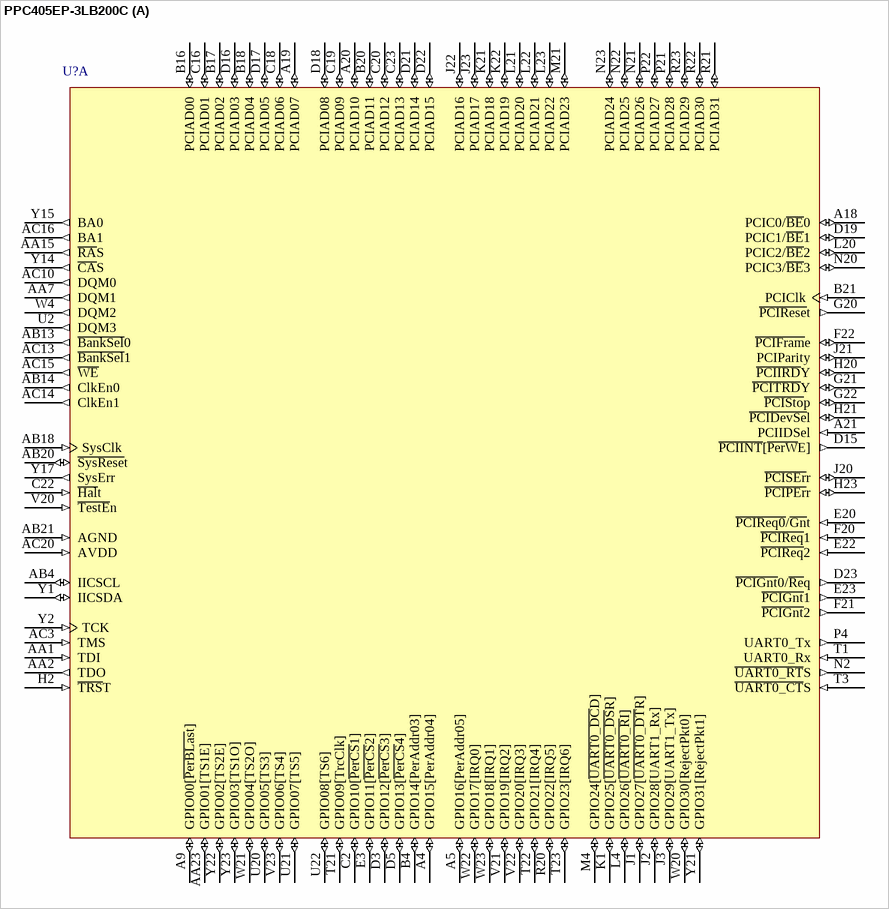
[diagram p32: symbol PPC405EP-3LB200C]

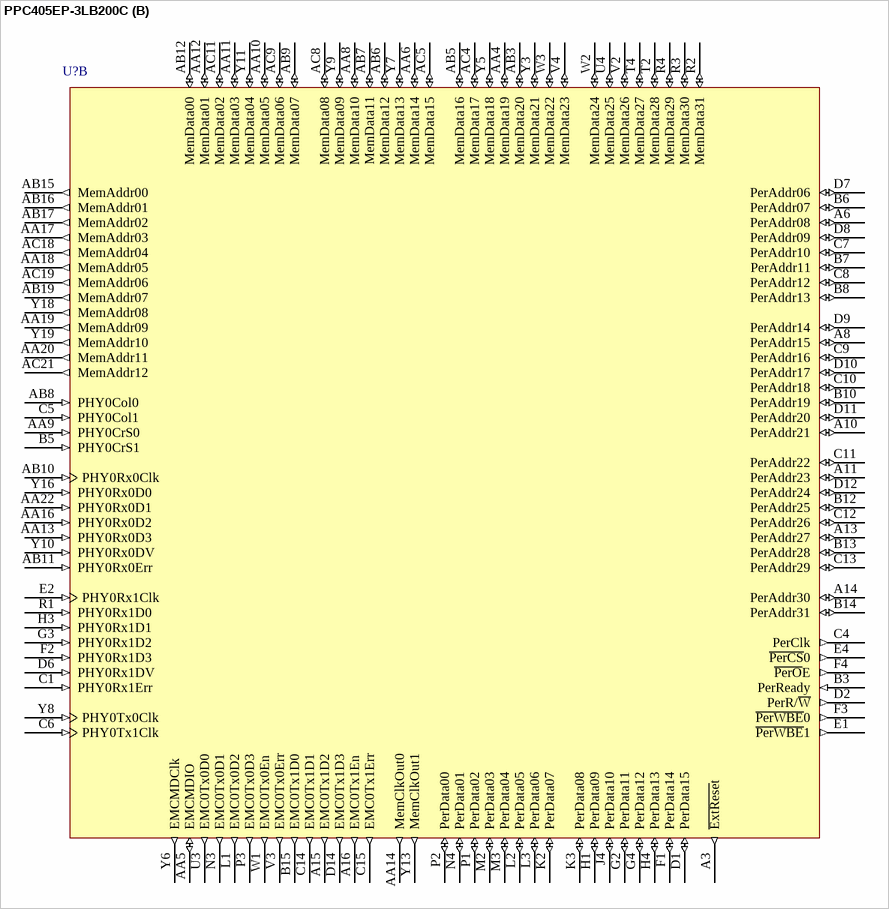
[diagram p33: symbol PPC405EP-3LB200C]

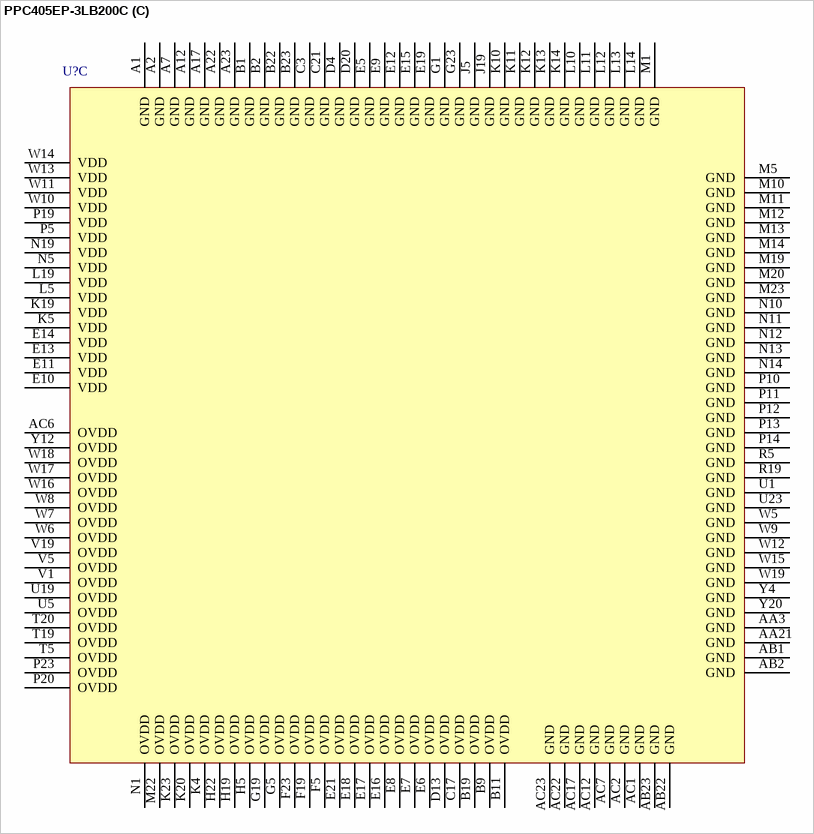
[diagram p34: symbol PPC405EP-3LB200C]

## PPC405EP-3LB200C
designator U?
PowerPC 405EP Embedded Processor, 200MHz, 31mm, 385 Ball E-PBGA, Pb-Free; Published: 6-Oct-2005; LatestRevisionDate: 13-Apr-2006; LatestRevisionNote: IPC-7351 Footprint Added.; DatasheetVersion: rev1.02, Jan-2005; PackageVersion: Jan-2005; PackageReference: E-PBGA385; Publisher: Altium Limited; PackageDescription: 385-Ball Enhanced Plastic Ball Grid Array; ComponentLink1Description: Manufacturer Link; ComponentLink1URL: http://www.amcc.com/; ComponentLink2Description: Datasheet; ComponentLink2URL: https://www.amcc.com/MyAMCC/retrieveDocument/PowerPC/405EP/PPC405EP_DS2003__v1_02.pdf
footprint E-PBGA385 (BGA, 385-Leads, Body 31x31mm, Pitch 1.27mm)
3D model PPC405EP-E-PBGA385 (385-Ball Enhanced Plastic Ball Grid Array)
part A pins: A4 GPIO15[PerAddr04] (io), A5 GPIO16[PerAddr05] (io), A9 GPIO00[~{PerBLas}t] (io), A18 PCIC0/~{BE}0 (io), A19 PCIAD07 (io), A20 PCIAD10 (io), A21 PCIIDSel (in), AA1 TDI (in), AA2 TDO (out), AA7 DQM1 (out), AA15 ~{RA}S (out), AA23 GPIO01[TS1E] (io), AB4 IICSCL (io), AB13 ~{BankSel}0 (out), AB14 ClkEn0 (out), AB18 SysClk (in), AB20 ~{SysRese}t (io), AB21 AGND (in), AC3 TMS (in), AC10 DQM0 (out), AC13 ~{BankSel}1 (out), AC14 ClkEn1 (out), AC15 ~{WE} (out), AC16 BA1 (out), AC20 AVDD (in), B4 GPIO14[PerAddr03] (io), B16 PCIAD00 (io), B17 PCIAD02 (io), B18 PCIAD04 (io), B20 PCIAD11 (io), B21 PCIClk (in), C2 GPIO10[~{PerCS}1] (io), C16 PCIAD01 (io), C18 PCIAD06 (io), C19 PCIAD09 (io), C20 PCIAD12 (io), C22 ~{Hal}t (in), C23 PCIAD13 (io), D3 GPIO12[~{PerCS}3] (io), D5 GPIO13[~{PerCS}4] (io), D15 ~{PCIINT}[~{PerW}E] (out), D16 PCIAD03 (io), D17 PCIAD05 (io), D18 PCIAD08 (io), D19 PCIC1/~{BE}1 (io), D21 PCIAD14 (io), D22 PCIAD15 (io), D23 ~{PCIGnt}0/~{Re}q (out), E3 GPIO11[~{PerCS}2] (io), E20 ~{PCIReq0}/~{Gn}t (in), E22 ~{PCIReq}2 (in), E23 ~{PCIGnt}1 (out), F20 ~{PCIReq}1 (in), F21 ~{PCIGnt}2 (out), F22 ~{PCIFram}e (io), G20 ~{PCIRese}t (out), G21 ~{PCITRD}Y (io), G22 ~{PCISto}p (io), H2 ~{TRS}T (in), H20 ~{PCIIRD}Y (io), H21 ~{PCIDevSe}l (io), H23 ~{PCIPEr}r (io), J1 GPIO27[~{UART0_DT}R] (io), J2 GPIO28[UART1_Rx] (io), J3 GPIO29[UART1_Tx] (io), J20 ~{PCISEr}r (io), J21 PCIParity (io), J22 PCIAD16 (io), J23 PCIAD17 (io), K1 GPIO25[~{UART0_DS}R] (io), K21 PCIAD18 (io), K22 PCIAD19 (io), L4 GPIO26[~{UART0_R}I] (io), L20 PCIC2/~{BE}2 (io), L21 PCIAD20 (io), L22 PCIAD21 (io), L23 PCIAD22 (io), M4 GPIO24[~{UART0_DC}D] (io), M21 PCIAD23 (io), N2 ~{UART0_RT}S (out), N20 PCIC3/~{BE}3 (io), N21 PCIAD26 (io), N22 PCIAD25 (io), N23 PCIAD24 (io), P4 UART0_Tx (out), P21 PCIAD28 (io), P22 PCIAD27 (io), R20 GPIO22[IRQ5] (io), R21 PCIAD31 (io), R22 PCIAD30 (io), R23 PCIAD29 (io), T1 UART0_Rx (in), T3 ~{UART0_CT}S (in), T21 GPIO09[TrcClk] (io), T22 GPIO21[IRQ4] (io), T23 GPIO23[IRQ6] (io), U2 DQM3 (out), U20 GPIO05[TS3] (io), U21 GPIO07[TS5] (io), U22 GPIO08[TS6] (io), V20 ~{TestE}n (in), V21 GPIO19[IRQ2] (io), V22 GPIO20[IRQ3] (io), V23 GPIO06[TS4] (io), W4 DQM2 (out), W20 GPIO30[RejectPkt0] (io), W21 GPIO04[TS2O] (io), W22 GPIO17[IRQ0] (io), W23 GPIO18[IRQ1] (io), Y1 IICSDA (io), Y2 TCK (in), Y14 ~{CA}S (out), Y15 BA0 (out), Y17 SysErr (out), Y21 GPIO31[RejectPkt1] (io), Y22 GPIO02[TS2E] (io), Y23 GPIO03[TS1O] (io)
part B pins: A3 ~{ExtRese}t (out), A6 PerAddr08 (io), A8 PerAddr15 (io), A10 PerAddr21 (io), A11 PerAddr23 (io), A13 PerAddr27 (io), A14 PerAddr30 (io), A15 EMC0Tx1D2 (out), A16 EMC0Tx1En (out), AA4 MemData19 (io), AA5 EMCMDIO (io), AA6 MemData14 (io), AA8 MemData10 (io), AA9 PHY0CrS0 (in), AA10 MemData05 (io), AA11 MemData03 (io), AA12 MemData01 (io), AA13 PHY0Rx0D3 (in), AA14 MemClkOut0 (out), AA16 PHY0Rx0D2 (in), AA17 MemAddr03 (out), AA18 MemAddr05 (out), AA19 MemAddr09 (out), AA20 MemAddr11 (out), AA22 PHY0Rx0D1 (in), AB3 MemData20 (io), AB5 MemData16 (io), AB6 MemData12 (io), AB7 MemData11 (io), AB8 PHY0Col0 (in), AB9 MemData07 (io), AB10 PHY0Rx0Clk (in), AB11 PHY0Rx0Err (in), AB12 MemData00 (io), AB15 MemAddr00 (out), AB16 MemAddr01 (out), AB17 MemAddr02 (out), AB19 MemAddr07 (out), AC4 MemData17 (io), AC5 MemData15 (io), AC8 MemData08 (io), AC9 MemData06 (io), AC11 MemData02 (io), AC18 MemAddr04 (out), AC19 MemAddr06 (out), AC21 MemAddr12 (out), B3 PerReady (in), B5 PHY0CrS1 (in), B6 PerAddr07 (io), B7 PerAddr11 (io), B8 PerAddr13 (io), B10 PerAddr19 (io), B12 PerAddr25 (io), B13 PerAddr28 (io), B14 PerAddr31 (io), B15 EMC0Tx1D0 (out), C1 PHY0Rx1Err (in), C4 PerClk (out), C5 PHY0Col1 (in), C6 PHY0Tx1Clk (in), C7 PerAddr10 (io), C8 PerAddr12 (io), C9 PerAddr16 (io), C10 PerAddr18 (io), C11 PerAddr22 (io), C12 PerAddr26 (io), C13 PerAddr29 (io), C14 EMC0Tx1D1 (out), C15 EMC0Tx1Err (out), D1 PerData15 (io), D2 PerR/~{W} (out), D6 PHY0Rx1DV (in), D7 PerAddr06 (io), D8 PerAddr09 (io), D9 PerAddr14 (io), D10 PerAddr17 (io), D11 PerAddr20 (io), D12 PerAddr24 (io), D14 EMC0Tx1D3 (out), E1 ~{PerWBE}1 (out), E2 PHY0Rx1Clk (in), E4 ~{PerCS}0 (out), F1 PerData14 (io), F2 PHY0Rx1D3 (in), F3 ~{PerWBE}0 (out), F4 ~{PerO}E (out), G2 PerData11 (io), G3 PHY0Rx1D2 (in), G4 PerData12 (io), H1 PerData09 (io), H3 PHY0Rx1D1 (in), H4 PerData13 (io), J4 PerData10 (io), K2 PerData07 (io), K3 PerData08 (io), L1 EMC0Tx0D2 (out), L2 PerData05 (io), L3 PerData06 (io), M2 PerData03 (io), M3 PerData04 (io), N3 EMC0Tx0D1 (out), N4 PerData01 (io), P1 PerData02 (io), P2 PerData00 (io), P3 EMC0Tx0D3 (out), R1 PHY0Rx1D0 (in), R2 MemData31 (io), R3 MemData30 (io), R4 MemData29 (io), T2 MemData28 (io), T4 MemData27 (io), U3 EMC0Tx0D0 (out), U4 MemData25 (io), V2 MemData26 (io), V3 EMC0Tx0Err (out), V4 MemData23 (io), W1 EMC0Tx0En (out), W2 MemData24 (io), W3 MemData22 (io), Y3 MemData21 (io), Y5 MemData18 (io), Y6 EMCMDClk (out), Y7 MemData13 (io), Y8 PHY0Tx0Clk (in), Y9 MemData09 (io), Y10 PHY0Rx0DV (in), Y11 MemData04 (io), Y13 MemClkOut1 (out), Y16 PHY0Rx0D0 (in), Y18 MemAddr08 (out), Y19 MemAddr10 (out)
part C pins: A1 GND (power), A2 GND (power), A7 GND (power), A12 GND (power), A17 GND (power), A22 GND (power), A23 GND (power), AA3 GND (power), AA21 GND (power), AB1 GND (power), AB2 GND (power), AB22 GND (power), AB23 GND (power), AC1 GND (power), AC2 GND (power), AC6 OVDD (power), AC7 GND (power), AC12 GND (power), AC17 GND (power), AC22 GND (power), AC23 GND (power), B1 GND (power), B2 GND (power), B9 OVDD (power), B11 OVDD (power), B19 OVDD (power), B22 GND (power), B23 GND (power), C3 GND (power), C17 OVDD (power), C21 GND (power), D4 GND (power), D13 OVDD (power), D20 GND (power), E5 GND (power), E6 OVDD (power), E7 OVDD (power), E8 OVDD (power), E9 GND (power), E10 VDD (power), E11 VDD (power), E12 GND (power), E13 VDD (power), E14 VDD (power), E15 GND (power), E16 OVDD (power), E17 OVDD (power), E18 OVDD (power), E19 GND (power), E21 OVDD (power), F5 OVDD (power), F19 OVDD (power), F23 OVDD (power), G1 GND (power), G5 OVDD (power), G19 OVDD (power), G23 GND (power), H5 OVDD (power), H19 OVDD (power), H22 OVDD (power), J5 GND (power), J19 GND (power), K4 OVDD (power), K5 VDD (power), K10 GND (power) "Thermal Balls", K11 GND (power) "Thermal Balls", K12 GND (power) "Thermal Balls", K13 GND (power) "Thermal Balls", K14 GND (power) "Thermal Balls", K19 VDD (power), K20 OVDD (power), K23 OVDD (power), L5 VDD (power), L10 GND (power) "Thermal Balls", L11 GND (power) "Thermal Balls", L12 GND (power) "Thermal Balls", L13 GND (power) "Thermal Balls", L14 GND (power) "Thermal Balls", L19 VDD (power), M1 GND (power), M5 GND (power), M10 GND (power) "Thermal Balls", M11 GND (power) "Thermal Balls", M12 GND (power) "Thermal Balls", M13 GND (power) "Thermal Balls", M14 GND (power) "Thermal Balls", M19 GND (power), M20 GND (power), M22 OVDD (power), M23 GND (power), N1 OVDD (power), N5 VDD (power), N10 GND (power) "Thermal Balls", N11 GND (power) "Thermal Balls", N12 GND (power) "Thermal Balls", N13 GND (power) "Thermal Balls", N14 GND (power) "Thermal Balls", N19 VDD (power), P5 VDD (power), P10 GND (power) "Thermal Balls", P11 GND (power) "Thermal Balls", P12 GND (power) "Thermal Balls", P13 GND (power) "Thermal Balls", P14 GND (power) "Thermal Balls", P19 VDD (power), P20 OVDD (power), P23 OVDD (power), R5 GND (power), R19 GND (power), T5 OVDD (power), T19 OVDD (power), T20 OVDD (power), U1 GND (power), U5 OVDD (power), U19 OVDD (power), U23 GND (power), V1 OVDD (power), V5 OVDD (power), V19 OVDD (power), W5 GND (power), W6 OVDD (power), W7 OVDD (power), W8 OVDD (power), W9 GND (power), W10 VDD (power), W11 VDD (power), W12 GND (power), W13 VDD (power), W14 VDD (power), W15 GND (power), W16 OVDD (power), W17 OVDD (power), W18 OVDD (power), W19 GND (power), Y4 GND (power), Y12 OVDD (power), Y20 GND (power)

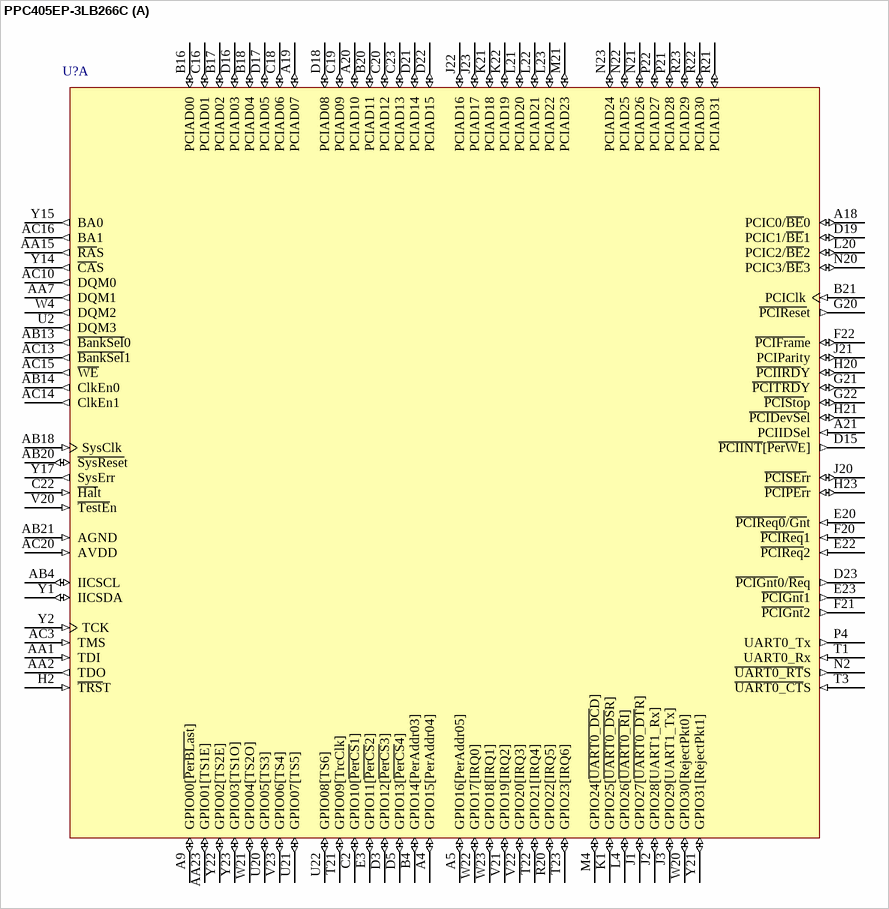
[diagram p35: symbol PPC405EP-3LB266C]

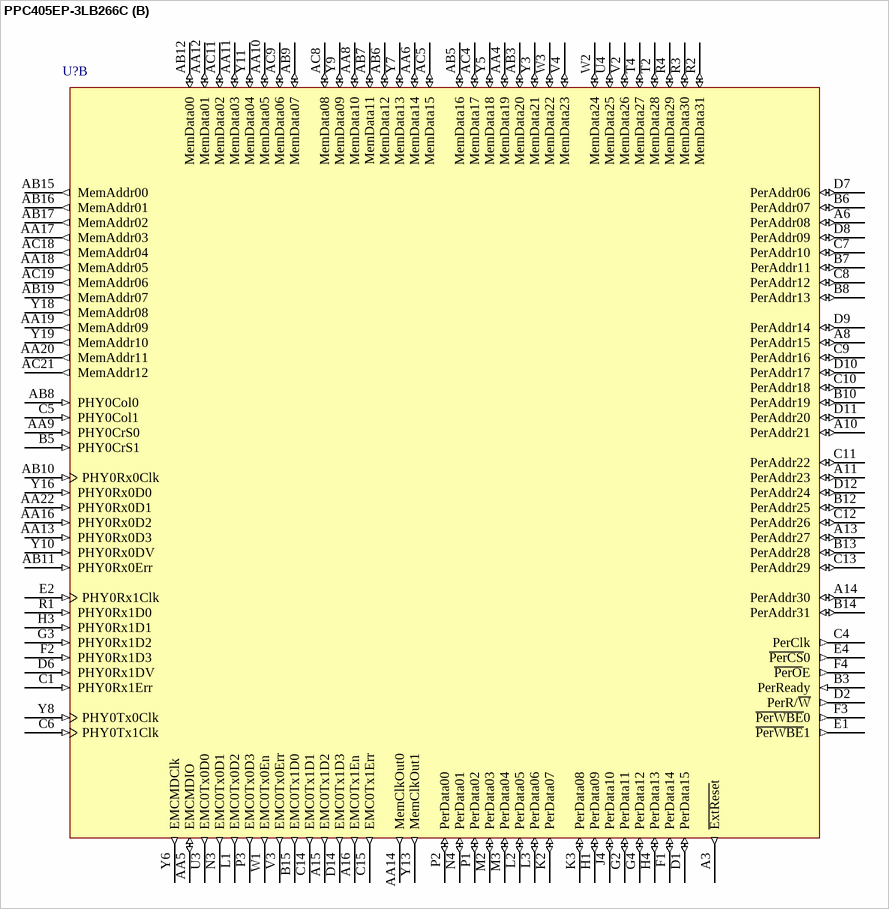
[diagram p36: symbol PPC405EP-3LB266C]

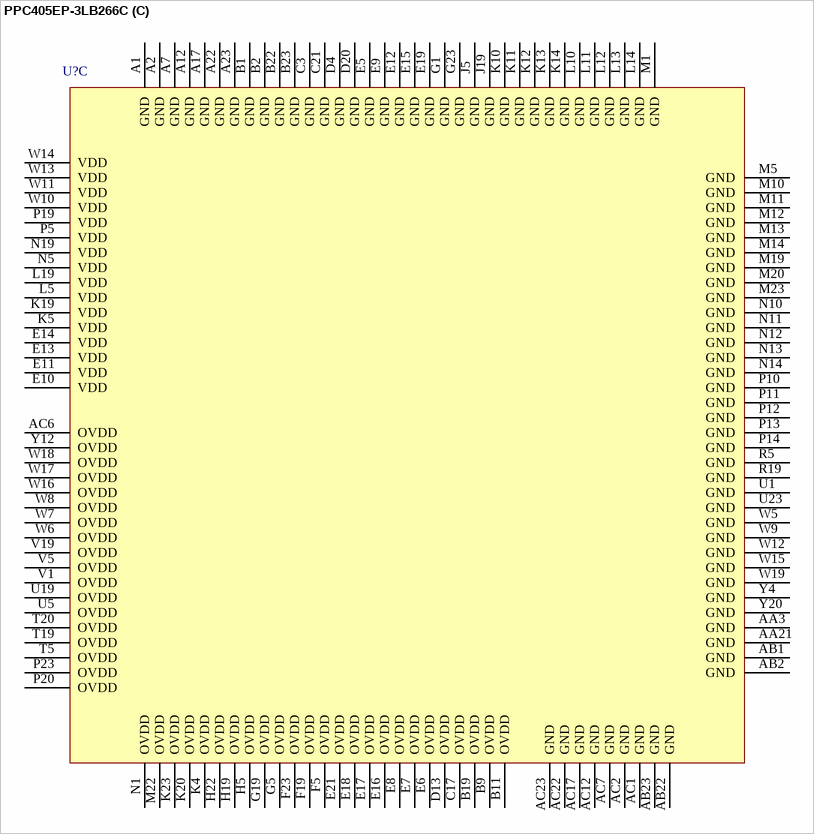
[diagram p37: symbol PPC405EP-3LB266C]

## PPC405EP-3LB266C
designator U?
PowerPC 405EP Embedded Processor, 266MHz, 31mm, 385 Ball E-PBGA, Pb-Free; Published: 6-Oct-2005; LatestRevisionDate: 13-Apr-2006; LatestRevisionNote: IPC-7351 Footprint Added.; DatasheetVersion: rev1.02, Jan-2005; PackageVersion: Jan-2005; PackageReference: E-PBGA385; Publisher: Altium Limited; PackageDescription: 385-Ball Enhanced Plastic Ball Grid Array; ComponentLink1Description: Manufacturer Link; ComponentLink1URL: http://www.amcc.com/; ComponentLink2Description: Datasheet; ComponentLink2URL: https://www.amcc.com/MyAMCC/retrieveDocument/PowerPC/405EP/PPC405EP_DS2003__v1_02.pdf
footprint E-PBGA385 (BGA, 385-Leads, Body 31x31mm, Pitch 1.27mm)
3D model PPC405EP-E-PBGA385 (385-Ball Enhanced Plastic Ball Grid Array)
part A pins: A4 GPIO15[PerAddr04] (io), A5 GPIO16[PerAddr05] (io), A9 GPIO00[~{PerBLas}t] (io), A18 PCIC0/~{BE}0 (io), A19 PCIAD07 (io), A20 PCIAD10 (io), A21 PCIIDSel (in), AA1 TDI (in), AA2 TDO (out), AA7 DQM1 (out), AA15 ~{RA}S (out), AA23 GPIO01[TS1E] (io), AB4 IICSCL (io), AB13 ~{BankSel}0 (out), AB14 ClkEn0 (out), AB18 SysClk (in), AB20 ~{SysRese}t (io), AB21 AGND (in), AC3 TMS (in), AC10 DQM0 (out), AC13 ~{BankSel}1 (out), AC14 ClkEn1 (out), AC15 ~{WE} (out), AC16 BA1 (out), AC20 AVDD (in), B4 GPIO14[PerAddr03] (io), B16 PCIAD00 (io), B17 PCIAD02 (io), B18 PCIAD04 (io), B20 PCIAD11 (io), B21 PCIClk (in), C2 GPIO10[~{PerCS}1] (io), C16 PCIAD01 (io), C18 PCIAD06 (io), C19 PCIAD09 (io), C20 PCIAD12 (io), C22 ~{Hal}t (in), C23 PCIAD13 (io), D3 GPIO12[~{PerCS}3] (io), D5 GPIO13[~{PerCS}4] (io), D15 ~{PCIINT}[~{PerW}E] (out), D16 PCIAD03 (io), D17 PCIAD05 (io), D18 PCIAD08 (io), D19 PCIC1/~{BE}1 (io), D21 PCIAD14 (io), D22 PCIAD15 (io), D23 ~{PCIGnt}0/~{Re}q (out), E3 GPIO11[~{PerCS}2] (io), E20 ~{PCIReq0}/~{Gn}t (in), E22 ~{PCIReq}2 (in), E23 ~{PCIGnt}1 (out), F20 ~{PCIReq}1 (in), F21 ~{PCIGnt}2 (out), F22 ~{PCIFram}e (io), G20 ~{PCIRese}t (out), G21 ~{PCITRD}Y (io), G22 ~{PCISto}p (io), H2 ~{TRS}T (in), H20 ~{PCIIRD}Y (io), H21 ~{PCIDevSe}l (io), H23 ~{PCIPEr}r (io), J1 GPIO27[~{UART0_DT}R] (io), J2 GPIO28[UART1_Rx] (io), J3 GPIO29[UART1_Tx] (io), J20 ~{PCISEr}r (io), J21 PCIParity (io), J22 PCIAD16 (io), J23 PCIAD17 (io), K1 GPIO25[~{UART0_DS}R] (io), K21 PCIAD18 (io), K22 PCIAD19 (io), L4 GPIO26[~{UART0_R}I] (io), L20 PCIC2/~{BE}2 (io), L21 PCIAD20 (io), L22 PCIAD21 (io), L23 PCIAD22 (io), M4 GPIO24[~{UART0_DC}D] (io), M21 PCIAD23 (io), N2 ~{UART0_RT}S (out), N20 PCIC3/~{BE}3 (io), N21 PCIAD26 (io), N22 PCIAD25 (io), N23 PCIAD24 (io), P4 UART0_Tx (out), P21 PCIAD28 (io), P22 PCIAD27 (io), R20 GPIO22[IRQ5] (io), R21 PCIAD31 (io), R22 PCIAD30 (io), R23 PCIAD29 (io), T1 UART0_Rx (in), T3 ~{UART0_CT}S (in), T21 GPIO09[TrcClk] (io), T22 GPIO21[IRQ4] (io), T23 GPIO23[IRQ6] (io), U2 DQM3 (out), U20 GPIO05[TS3] (io), U21 GPIO07[TS5] (io), U22 GPIO08[TS6] (io), V20 ~{TestE}n (in), V21 GPIO19[IRQ2] (io), V22 GPIO20[IRQ3] (io), V23 GPIO06[TS4] (io), W4 DQM2 (out), W20 GPIO30[RejectPkt0] (io), W21 GPIO04[TS2O] (io), W22 GPIO17[IRQ0] (io), W23 GPIO18[IRQ1] (io), Y1 IICSDA (io), Y2 TCK (in), Y14 ~{CA}S (out), Y15 BA0 (out), Y17 SysErr (out), Y21 GPIO31[RejectPkt1] (io), Y22 GPIO02[TS2E] (io), Y23 GPIO03[TS1O] (io)
part B pins: A3 ~{ExtRese}t (out), A6 PerAddr08 (io), A8 PerAddr15 (io), A10 PerAddr21 (io), A11 PerAddr23 (io), A13 PerAddr27 (io), A14 PerAddr30 (io), A15 EMC0Tx1D2 (out), A16 EMC0Tx1En (out), AA4 MemData19 (io), AA5 EMCMDIO (io), AA6 MemData14 (io), AA8 MemData10 (io), AA9 PHY0CrS0 (in), AA10 MemData05 (io), AA11 MemData03 (io), AA12 MemData01 (io), AA13 PHY0Rx0D3 (in), AA14 MemClkOut0 (out), AA16 PHY0Rx0D2 (in), AA17 MemAddr03 (out), AA18 MemAddr05 (out), AA19 MemAddr09 (out), AA20 MemAddr11 (out), AA22 PHY0Rx0D1 (in), AB3 MemData20 (io), AB5 MemData16 (io), AB6 MemData12 (io), AB7 MemData11 (io), AB8 PHY0Col0 (in), AB9 MemData07 (io), AB10 PHY0Rx0Clk (in), AB11 PHY0Rx0Err (in), AB12 MemData00 (io), AB15 MemAddr00 (out), AB16 MemAddr01 (out), AB17 MemAddr02 (out), AB19 MemAddr07 (out), AC4 MemData17 (io), AC5 MemData15 (io), AC8 MemData08 (io), AC9 MemData06 (io), AC11 MemData02 (io), AC18 MemAddr04 (out), AC19 MemAddr06 (out), AC21 MemAddr12 (out), B3 PerReady (in), B5 PHY0CrS1 (in), B6 PerAddr07 (io), B7 PerAddr11 (io), B8 PerAddr13 (io), B10 PerAddr19 (io), B12 PerAddr25 (io), B13 PerAddr28 (io), B14 PerAddr31 (io), B15 EMC0Tx1D0 (out), C1 PHY0Rx1Err (in), C4 PerClk (out), C5 PHY0Col1 (in), C6 PHY0Tx1Clk (in), C7 PerAddr10 (io), C8 PerAddr12 (io), C9 PerAddr16 (io), C10 PerAddr18 (io), C11 PerAddr22 (io), C12 PerAddr26 (io), C13 PerAddr29 (io), C14 EMC0Tx1D1 (out), C15 EMC0Tx1Err (out), D1 PerData15 (io), D2 PerR/~{W} (out), D6 PHY0Rx1DV (in), D7 PerAddr06 (io), D8 PerAddr09 (io), D9 PerAddr14 (io), D10 PerAddr17 (io), D11 PerAddr20 (io), D12 PerAddr24 (io), D14 EMC0Tx1D3 (out), E1 ~{PerWBE}1 (out), E2 PHY0Rx1Clk (in), E4 ~{PerCS}0 (out), F1 PerData14 (io), F2 PHY0Rx1D3 (in), F3 ~{PerWBE}0 (out), F4 ~{PerO}E (out), G2 PerData11 (io), G3 PHY0Rx1D2 (in), G4 PerData12 (io), H1 PerData09 (io), H3 PHY0Rx1D1 (in), H4 PerData13 (io), J4 PerData10 (io), K2 PerData07 (io), K3 PerData08 (io), L1 EMC0Tx0D2 (out), L2 PerData05 (io), L3 PerData06 (io), M2 PerData03 (io), M3 PerData04 (io), N3 EMC0Tx0D1 (out), N4 PerData01 (io), P1 PerData02 (io), P2 PerData00 (io), P3 EMC0Tx0D3 (out), R1 PHY0Rx1D0 (in), R2 MemData31 (io), R3 MemData30 (io), R4 MemData29 (io), T2 MemData28 (io), T4 MemData27 (io), U3 EMC0Tx0D0 (out), U4 MemData25 (io), V2 MemData26 (io), V3 EMC0Tx0Err (out), V4 MemData23 (io), W1 EMC0Tx0En (out), W2 MemData24 (io), W3 MemData22 (io), Y3 MemData21 (io), Y5 MemData18 (io), Y6 EMCMDClk (out), Y7 MemData13 (io), Y8 PHY0Tx0Clk (in), Y9 MemData09 (io), Y10 PHY0Rx0DV (in), Y11 MemData04 (io), Y13 MemClkOut1 (out), Y16 PHY0Rx0D0 (in), Y18 MemAddr08 (out), Y19 MemAddr10 (out)
part C pins: A1 GND (power), A2 GND (power), A7 GND (power), A12 GND (power), A17 GND (power), A22 GND (power), A23 GND (power), AA3 GND (power), AA21 GND (power), AB1 GND (power), AB2 GND (power), AB22 GND (power), AB23 GND (power), AC1 GND (power), AC2 GND (power), AC6 OVDD (power), AC7 GND (power), AC12 GND (power), AC17 GND (power), AC22 GND (power), AC23 GND (power), B1 GND (power), B2 GND (power), B9 OVDD (power), B11 OVDD (power), B19 OVDD (power), B22 GND (power), B23 GND (power), C3 GND (power), C17 OVDD (power), C21 GND (power), D4 GND (power), D13 OVDD (power), D20 GND (power), E5 GND (power), E6 OVDD (power), E7 OVDD (power), E8 OVDD (power), E9 GND (power), E10 VDD (power), E11 VDD (power), E12 GND (power), E13 VDD (power), E14 VDD (power), E15 GND (power), E16 OVDD (power), E17 OVDD (power), E18 OVDD (power), E19 GND (power), E21 OVDD (power), F5 OVDD (power), F19 OVDD (power), F23 OVDD (power), G1 GND (power), G5 OVDD (power), G19 OVDD (power), G23 GND (power), H5 OVDD (power), H19 OVDD (power), H22 OVDD (power), J5 GND (power), J19 GND (power), K4 OVDD (power), K5 VDD (power), K10 GND (power) "Thermal Balls", K11 GND (power) "Thermal Balls", K12 GND (power) "Thermal Balls", K13 GND (power) "Thermal Balls", K14 GND (power) "Thermal Balls", K19 VDD (power), K20 OVDD (power), K23 OVDD (power), L5 VDD (power), L10 GND (power) "Thermal Balls", L11 GND (power) "Thermal Balls", L12 GND (power) "Thermal Balls", L13 GND (power) "Thermal Balls", L14 GND (power) "Thermal Balls", L19 VDD (power), M1 GND (power), M5 GND (power), M10 GND (power) "Thermal Balls", M11 GND (power) "Thermal Balls", M12 GND (power) "Thermal Balls", M13 GND (power) "Thermal Balls", M14 GND (power) "Thermal Balls", M19 GND (power), M20 GND (power), M22 OVDD (power), M23 GND (power), N1 OVDD (power), N5 VDD (power), N10 GND (power) "Thermal Balls", N11 GND (power) "Thermal Balls", N12 GND (power) "Thermal Balls", N13 GND (power) "Thermal Balls", N14 GND (power) "Thermal Balls", N19 VDD (power), P5 VDD (power), P10 GND (power) "Thermal Balls", P11 GND (power) "Thermal Balls", P12 GND (power) "Thermal Balls", P13 GND (power) "Thermal Balls", P14 GND (power) "Thermal Balls", P19 VDD (power), P20 OVDD (power), P23 OVDD (power), R5 GND (power), R19 GND (power), T5 OVDD (power), T19 OVDD (power), T20 OVDD (power), U1 GND (power), U5 OVDD (power), U19 OVDD (power), U23 GND (power), V1 OVDD (power), V5 OVDD (power), V19 OVDD (power), W5 GND (power), W6 OVDD (power), W7 OVDD (power), W8 OVDD (power), W9 GND (power), W10 VDD (power), W11 VDD (power), W12 GND (power), W13 VDD (power), W14 VDD (power), W15 GND (power), W16 OVDD (power), W17 OVDD (power), W18 OVDD (power), W19 GND (power), Y4 GND (power), Y12 OVDD (power), Y20 GND (power)

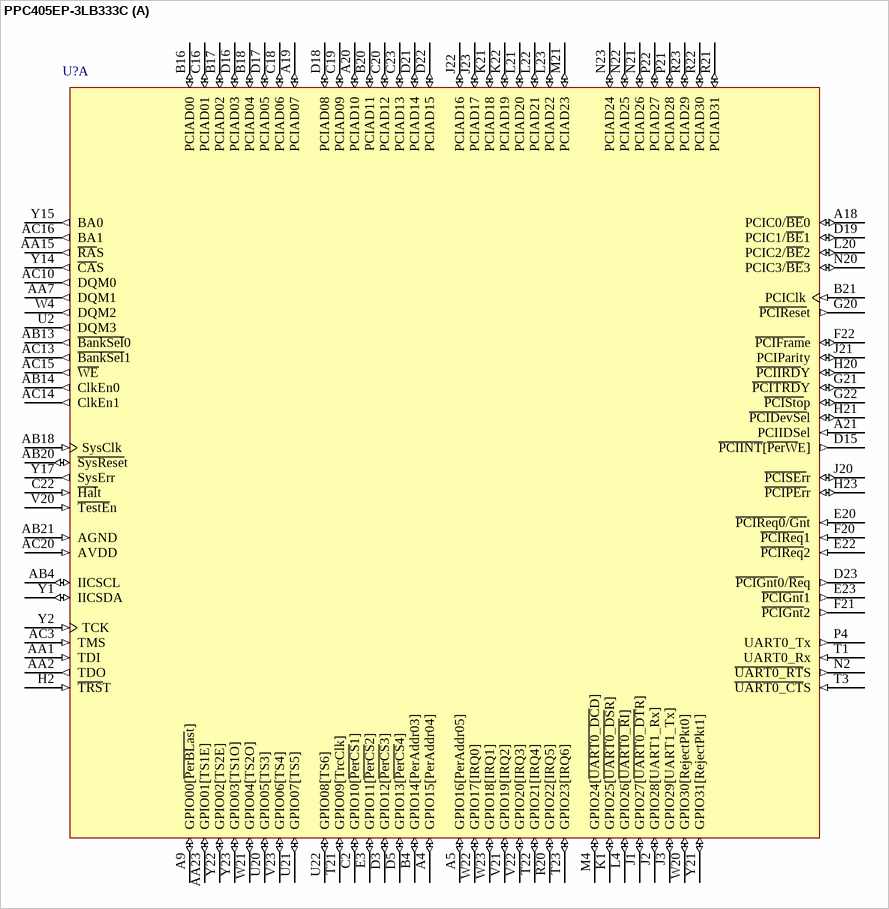
[diagram p38: symbol PPC405EP-3LB333C]

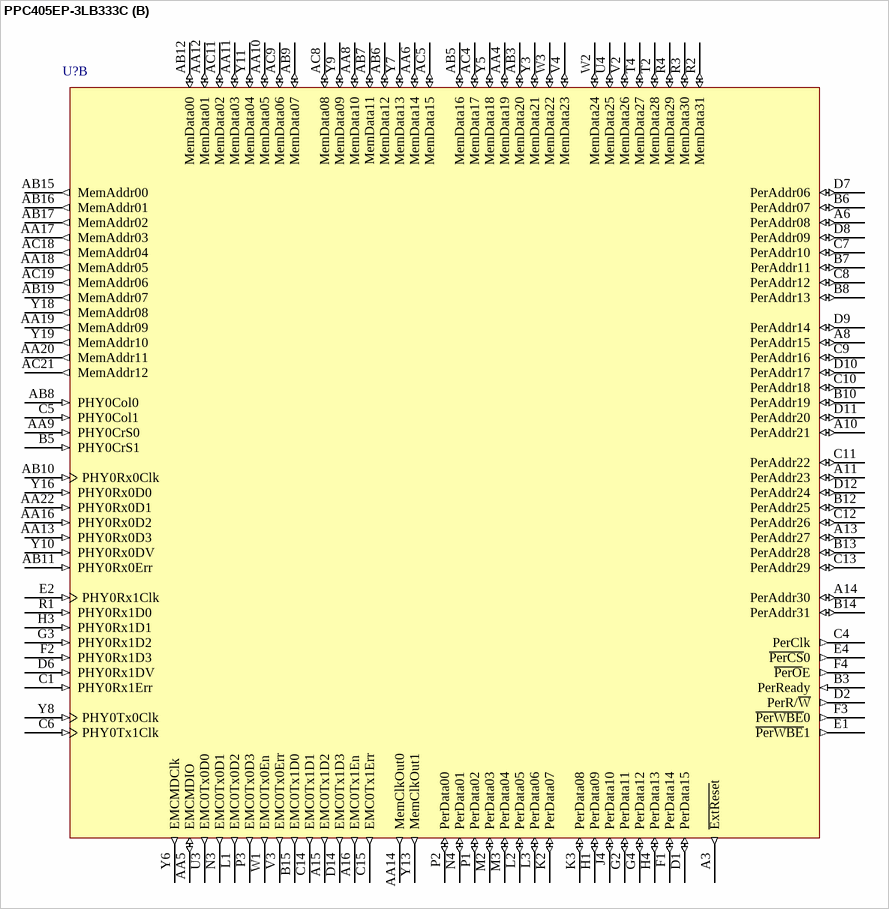
[diagram p39: symbol PPC405EP-3LB333C]

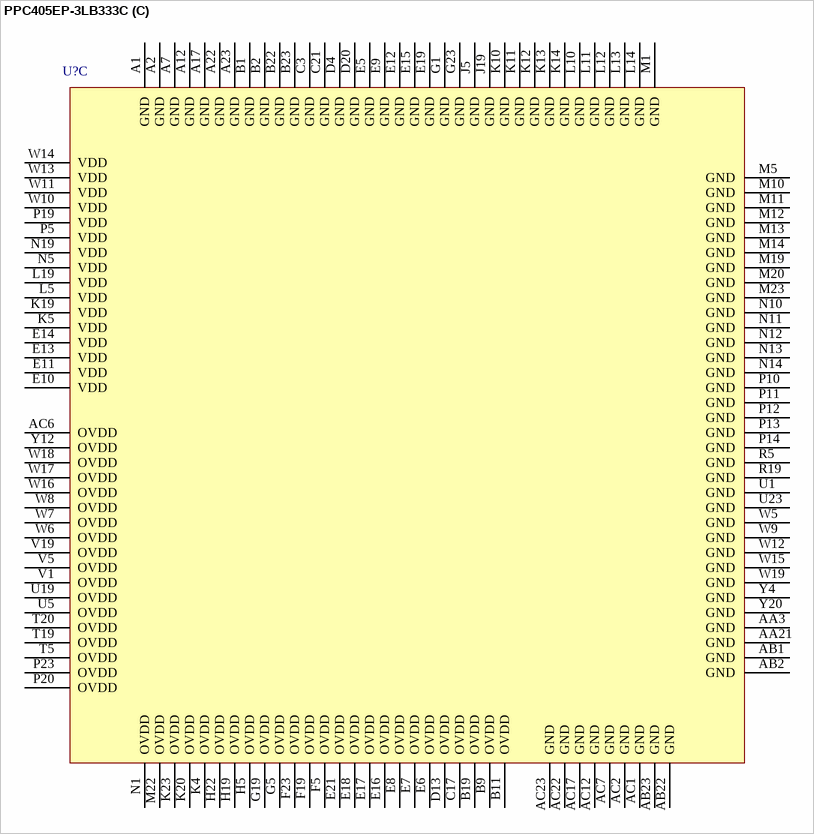
[diagram p40: symbol PPC405EP-3LB333C]